# EAGLE library part M402 (library sensor-hanwei)
HANWEI SENSOR M402
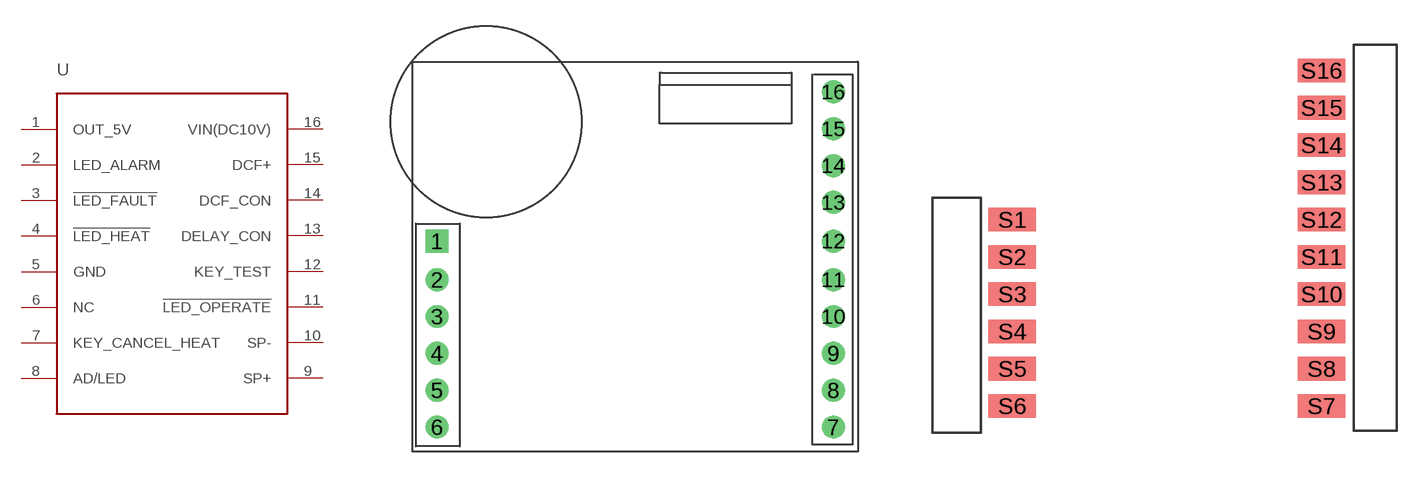
[diagram p0: symbol with the pads of M402; footprints M402, M402-PLS2-XXR]

Designator prefix -

## M402DIL  [M402]
1  OUT_5V  out
2  LED_ALARM  out
3  !LED_FAULT  out
4  !LED_HEAT  out
5  GND  sup
6  NC  nc
7  KEY_CANCEL_HEAT  in
8  AD/LED
9  SP+  out
10  SP-  out
11  !LED_OPERATE  out
12  KEY_TEST
13  DELAY_CON
14  DCF_CON
15  DCF+
16  VIN(DC10V)  pwr

## M402, M402SMD  [M402-PLS2-XXR]
S1  OUT_5V  out
S2  LED_ALARM  out
S3  !LED_FAULT  out
S4  !LED_HEAT  out
S5  GND  sup
S6  NC  nc
S7  KEY_CANCEL_HEAT  in
S8  AD/LED
S9  SP+  out
S10  SP-  out
S11  !LED_OPERATE  out
S12  KEY_TEST
S13  DELAY_CON
S14  DCF_CON
S15  DCF+
S16  VIN(DC10V)  pwr

## Footprint M402 (pad centres in mm)
drill 0.8 square: 1 1.4,12
drill 0.8 round: 2 1.4,9.8; 3 1.4,7.7; 4 1.4,5.6; 5 1.4,3.5; 6 1.4,1.4; 7 24,1.4; 8 24,3.5; 9 24,5.6; 10 24,7.7; 11 24,9.8; 12 24,12; 13 24,14.2; 14 24,16.3; 15 24,18.4; 16 24,20.5

## Footprint M402-PLS2-XXR (pad centres in mm)
smd 2.54 x 1.27: S1 -8,0; S2 -8,-2; S3 -8,-4; S4 -8,-6; S5 -8,-8; S6 -8,-10; S7 8.6,-10; S8 8.6,-8; S9 8.6,-6; S10 8.6,-4; S11 8.6,-2; S12 8.6,0; S13 8.6,2; S14 8.6,4; S15 8.6,6; S16 8.6,8